# Altium schematic symbol library 532610571.SchLib: 1 symbol
Pins are listed as number, name and electrical type; pins without a type are passive.

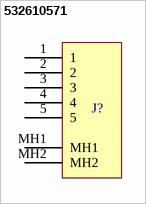
[diagram p0: symbol 532610571]

## 532610571
designator J?  (value not drawn)
Molex Picoblade $5-pin connector
pins: 1, 2, 3, 4, 5, MH1 (power), MH2 (power)